# Altium schematic symbol library Linear Power Management Regulators.SchLib: 1 symbol
Pins are listed as number, name and electrical type; pins without a type are passive.

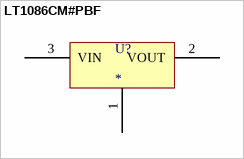
[diagram p0: symbol LT1086CM#PBF]

## LT1086CM#PBF
designator U?
Power Regulators; Digikey Part Number: LT1086CM#PBF-ND
footprint 3 LEAD M (M package)
pins: 1 GND, 2 VOUT, 3 VIN